# Altium footprint library VSSOP-8-PPAD.PcbLib: 1 footprints
Each footprint in its own frame and in the unit in brackets; x right, y up, seen from the top. Pads: shape width x height; smd on the part's side, far side on the other; paste and mask are expansions set on the pad; w line width, h text height; cw(c..) or ccw(c..) is an arc to the next point about the centre after c.
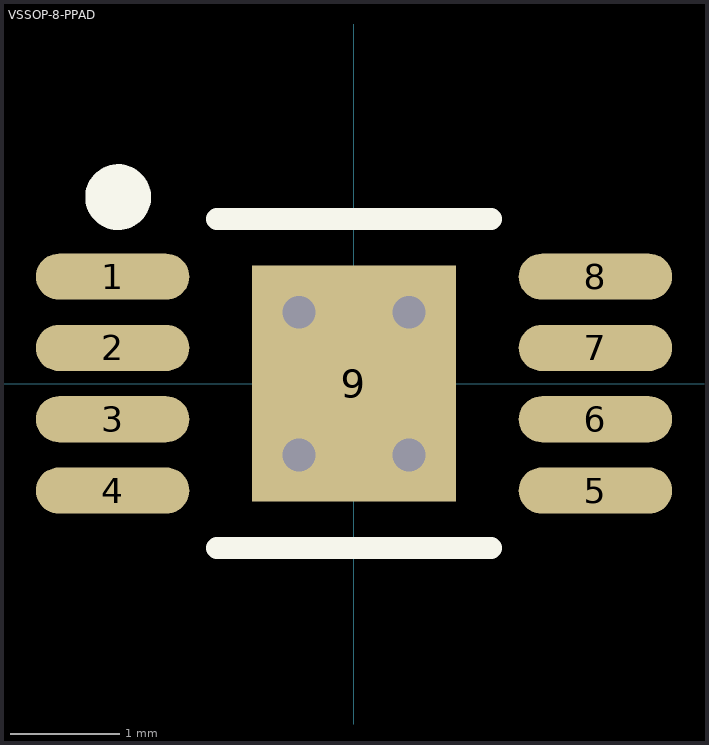
[diagram p0: the footprint, top view; thin cyan lines are the x and y axes]

## VSSOP-8-PPAD [mm]
pads (9):
  oval 1.4x0.42 smd mask+0.05: 1(-2.2,0.975) 2(-2.2,0.325) 3(-2.2,-0.325) 4(-2.2,-0.975) 5(2.2,-0.975) 6(2.2,-0.325) 7(2.2,0.325) 8(2.2,0.975)
  rect 1.86x2.15 smd: 9(0,0)
via -0.5,0.65 diameter 0.6 hole 0.3
via 0.5,0.65 diameter 0.6 hole 0.3
via -0.5,-0.65 diameter 0.6 hole 0.3
via 0.5,-0.65 diameter 0.6 hole 0.3
Top Overlay:
  circle w0.3: c-2.15,1.7 r0.15
  lines w0.2: -1.25,-1.5 1.25,-1.5 ; -1.25,1.5 1.25,1.5
Mechanical 15:
  lines w0.05: -0.25,0 0.25,0 ; 0,-0.25 0,0.25
3D body: height 1, standoff 0, extent -1.5,-1.5 1.5,1.5